# Altium schematic symbol library 3PO.SchLib: 9 symbols
Pins are listed as number, name and electrical type; pins without a type are passive.

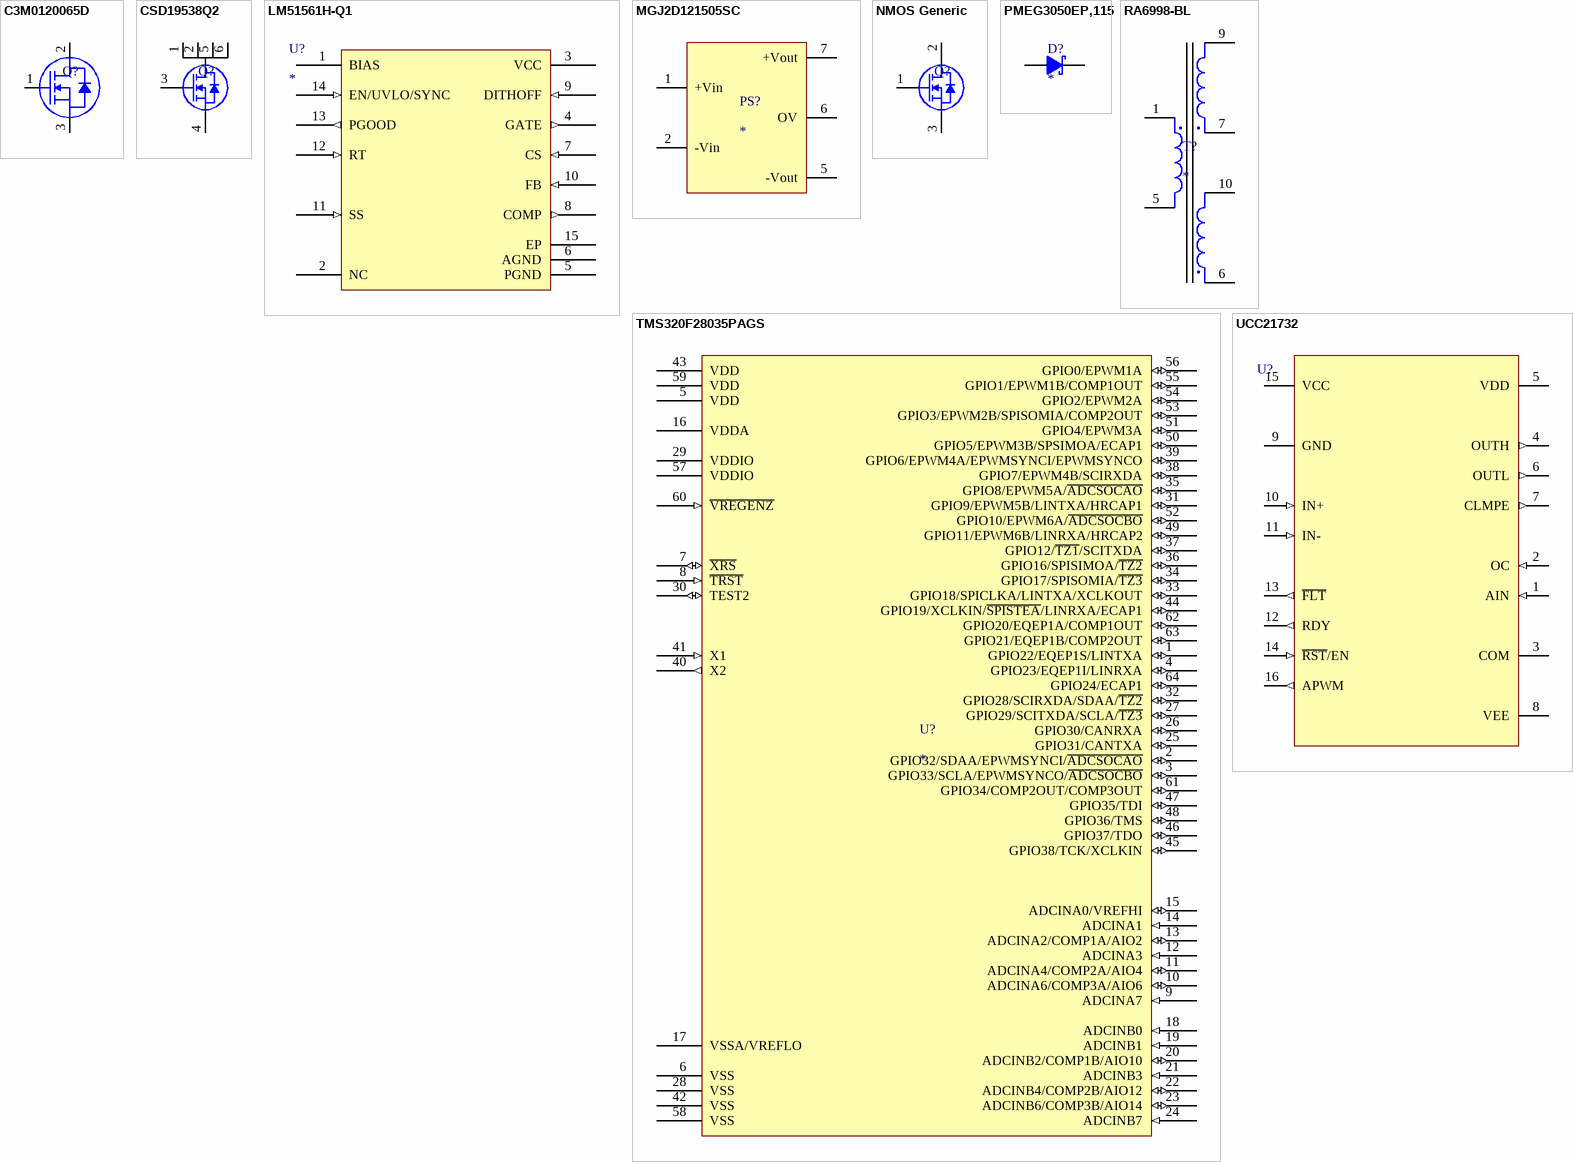
[diagram p0: symbols C3M0120065D to UCC21732]

## C3M0120065D
designator Q?  (value not drawn)
N-Channel 650 V 22A (Tc) 98W (Tc) Through Hole TO-247-3
pins: 1 GATE, 2 DRAIN, 3 SOURCE

## CSD19538Q2
designator Q?  (value not drawn)
MOSFET N-CH 100V 14.4A 6WSON
pins: 1 DRAIN, 2 DRAIN, 3 GATE, 4 SOURCE, 5 DRAIN, 6 DRAIN

## LM51561H-Q1
designator U?
2.2-MHz Wide VIN 65-V Non-synchronous Boost/SEPIC/FlybackController with 150°C Maximum Junction Temperature
pins: 1 BIAS (power), 2 NC, 3 VCC (power), 4 GATE (out), 5 PGND (power), 6 AGND (power), 7 CS (in), 8 COMP (out), 9 DITHOFF (in), 10 FB (in), 11 SS (in), 12 RT (in), 13 PGOOD (out), 14 EN/UVLO/SYNC (in), 15 EP

## MGJ2D121505SC
designator PS?
DC DC CONVERTER 15V -5V 2W
pins: 1 +Vin, 2 -Vin, 5 -Vout, 6 OV, 7 +Vout

## NMOS Generic
designator Q?  (value not drawn)
NMOS Generic Symbol
pins: 1 GATE, 2 DRAIN, 3 SOURCE

## PMEG3050EP,115
designator D?
DIODE SCHOTTKY 30V 5A SOD128
pins: 1, 2

## RA6998-BL
designator T?
Forward Mode Planar Transformer
pins: 1, 5, 6, 7, 9, 10

## TMS320F28035PAGS
designator U?
IC MCU 32BIT 128KB FLASH 64TQFP
pins: 1 GPIO22/EQEP1S/LINTXA (io), 2 GPIO32/SDAA/EPWMSYNCI/~{ADCSOCAO} (io), 3 GPIO33/SCLA/EPWMSYNCO/~{ADCSOCBO} (io), 4 GPIO23/EQEP1I/LINRXA (io), 5 VDD (power), 6 VSS (power), 7 ~{XRS} (io), 8 ~{TRST} (in), 9 ADCINA7 (in), 10 ADCINA6/COMP3A/AIO6 (io), 11 ADCINA4/COMP2A/AIO4 (io), 12 ADCINA3 (in), 13 ADCINA2/COMP1A/AIO2 (io), 14 ADCINA1 (in), 15 ADCINA0/VREFHI (io), 16 VDDA (power), 17 VSSA/VREFLO (power), 18 ADCINB0 (in), 19 ADCINB1 (in), 20 ADCINB2/COMP1B/AIO10 (io), 21 ADCINB3 (in), 22 ADCINB4/COMP2B/AIO12 (io), 23 ADCINB6/COMP3B/AIO14 (io), 24 ADCINB7 (in), 25 GPIO31/CANTXA (io), 26 GPIO30/CANRXA (io), 27 GPIO29/SCITXDA/SCLA/~{TZ3} (io), 28 VSS (power), 29 VDDIO (power), 30 TEST2 (io), 31 GPIO9/EPWM5B/LINTXA/HRCAP1 (io), 32 GPIO28/SCIRXDA/SDAA/~{TZ2} (io), 33 GPIO18/SPICLKA/LINTXA/XCLKOUT (io), 34 GPIO17/SPISOMIA/~{TZ3} (io), 35 GPIO8/EPWM5A/~{ADCSOCAO} (io), 36 GPIO16/SPISIMOA/~{TZ2} (io), 37 GPIO12/~{TZ1}/SCITXDA (io), 38 GPIO7/EPWM4B/SCIRXDA (io), 39 GPIO6/EPWM4A/EPWMSYNCI/EPWMSYNCO (io), 40 X2 (out), 41 X1 (in), 42 VSS (power), 43 VDD (power), 44 GPIO19/XCLKIN/~{SPISTEA}/LINRXA/ECAP1 (io), 45 GPIO38/TCK/XCLKIN (io), 46 GPIO37/TDO (io), 47 GPIO35/TDI (io), 48 GPIO36/TMS (io), 49 GPIO11/EPWM6B/LINRXA/HRCAP2 (io), 50 GPIO5/EPWM3B/SPSIMOA/ECAP1 (io), 51 GPIO4/EPWM3A (io), 52 GPIO10/EPWM6A/~{ADCSOCBO} (io), 53 GPIO3/EPWM2B/SPISOMIA/COMP2OUT (io), 54 GPIO2/EPWM2A (io), 55 GPIO1/EPWM1B/COMP1OUT (io), 56 GPIO0/EPWM1A (io), 57 VDDIO (power), 58 VSS (power), 59 VDD (power), 60 ~{VREGENZ} (in), 61 GPIO34/COMP2OUT/COMP3OUT (io), 62 GPIO20/EQEP1A/COMP1OUT (io), 63 GPIO21/EQEP1B/COMP2OUT (io), 64 GPIO24/ECAP1 (io)

## UCC21732
designator U?  (value not drawn)
10A Gate Driver Capacitive Coupling 5700Vrms 1 Channel 16-SOIC
pins: 1 AIN (in), 2 OC (in), 3 COM (power), 4 OUTH (out), 5 VDD (power), 6 OUTL (out), 7 CLMPE (out), 8 VEE (power), 9 GND (power), 10 IN+ (in), 11 IN- (in), 12 RDY (out), 13 ~{FLT} (out), 14 ~{RST}/EN (in), 15 VCC (power), 16 APWM (out)